# Altium footprint library PcbLib1.PcbLib: 20 footprints (part 1 of 2)
Each footprint in its own frame and in the unit in brackets; x right, y up, seen from the top. Pads: shape width x height; smd on the part's side, far side on the other; paste and mask are expansions set on the pad; w line width, h text height; cw(c..) or ccw(c..) is an arc to the next point about the centre after c.
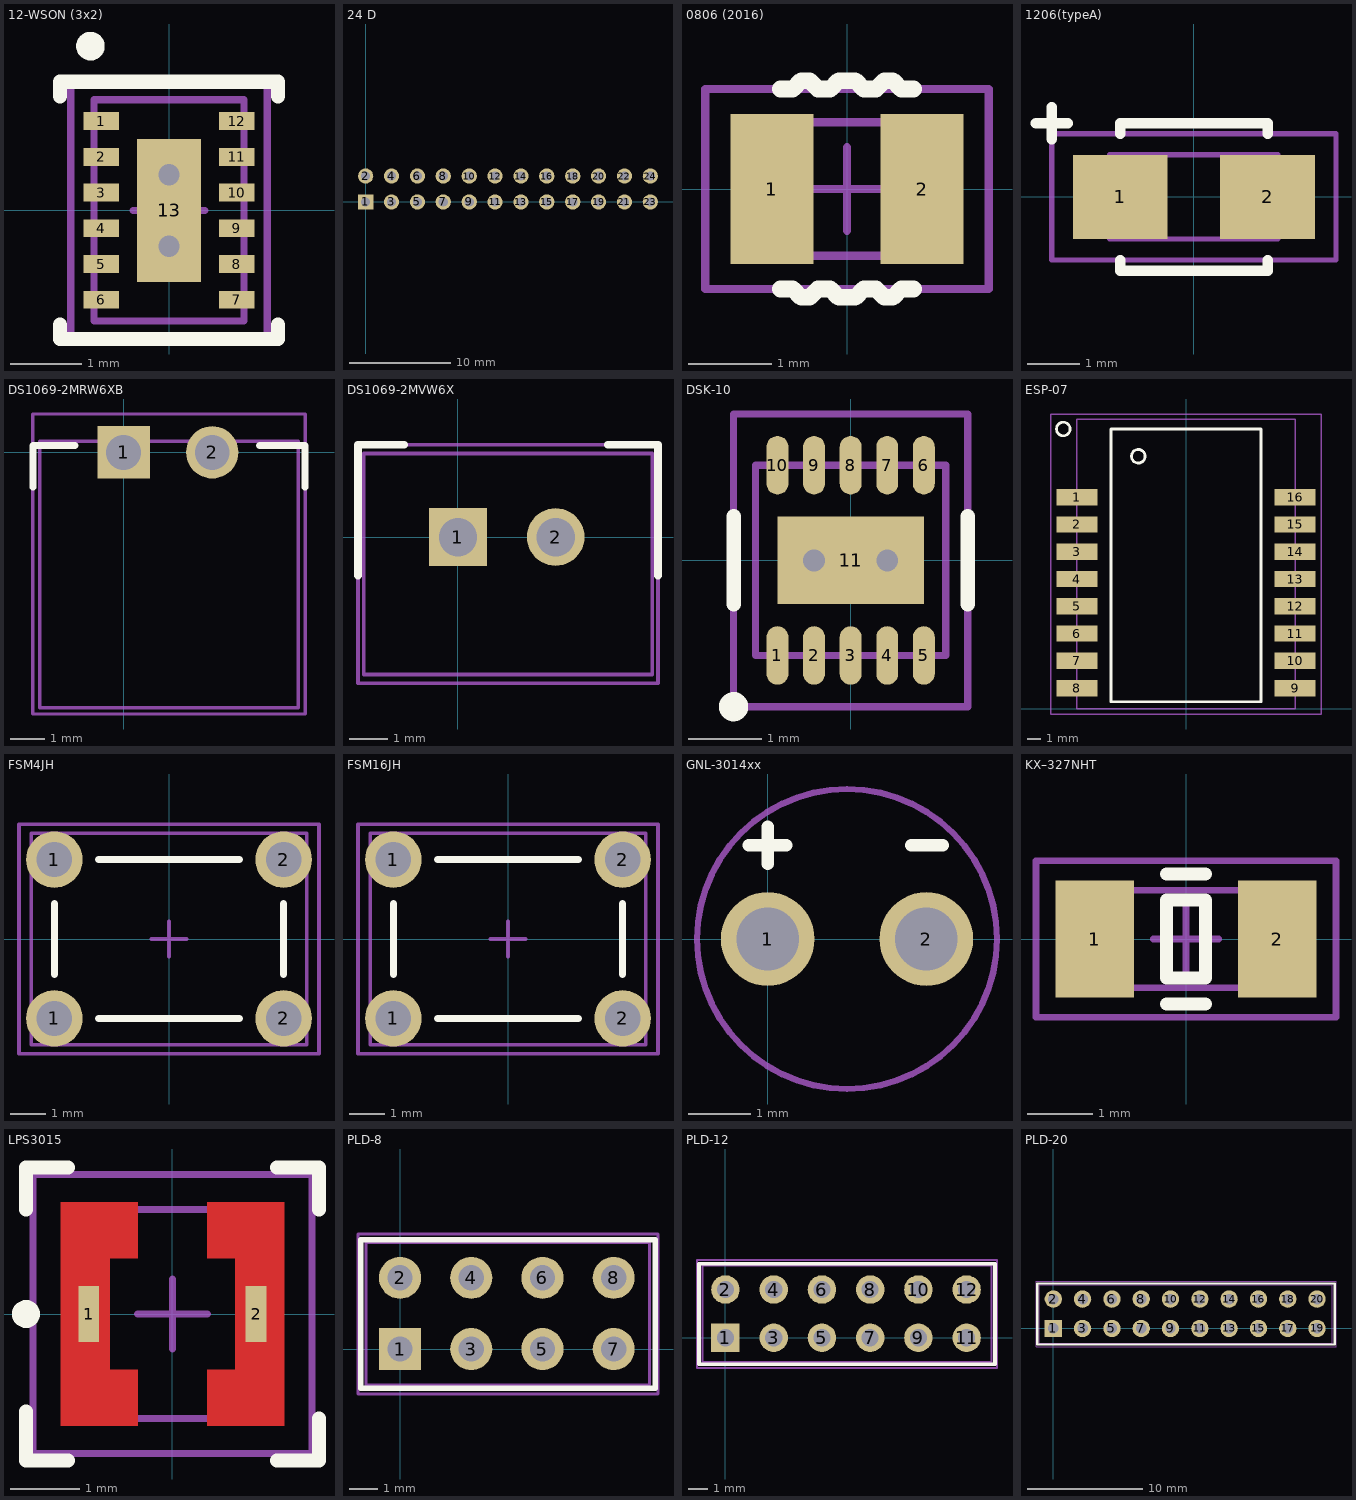
[diagram p0: the footprints below, top view; thin cyan lines are the x and y axes]

## 12-WSON (3x2) [mm]
pads (13):
  rect 0.5x0.25 smd mask+0.05: 1(-0.95,1.25) 2(-0.95,0.75) 3(-0.95,0.25) 4(-0.95,-0.25) 5(-0.95,-0.75) 6(-0.95,-1.25) 7(0.95,-1.25) 8(0.95,-0.75) 9(0.95,-0.25) 10(0.95,0.25) 11(0.95,0.75) 12(0.95,1.25)
  rect 0.9x2 smd mask+0.05: 13(0,0)
via 0,0.5 diameter 0.8 hole 0.3
via 0,-0.5 diameter 0.8 hole 0.3
Top Overlay:
  circle w0.2: c-1.1,2.3 r0.1
  lines w0.2: -1.525,-1.6 -1.525,-1.8 1.525,-1.8 1.525,-1.6 ; -1.525,1.6 -1.525,1.8 1.525,1.8 1.525,1.6
Mechanical 13:
  lines w0.1: -1.05,-1.55 -1.05,1.55 1.05,1.55 1.05,-1.55 -1.05,-1.55
Mechanical 15:
  lines w0.1: -0.5,0 0.5,0 ; 0,-0.5 0,0.5 ; -1.375,-1.75 1.375,-1.75 1.375,1.75 -1.375,1.75 -1.375,-1.75
3D body "User Library-WSON12.STEP": height 0.8, standoff 0, extent -1.05,-1.55 1.05,1.55

## 24 D [mm]
pads (24):
  rect 1.5x1.5 hole 0.9: 1(0,0)
  round 1.5 hole 0.9: 2(0,2.54) 3(2.54,0) 4(2.54,2.54) 5(5.08,0) 6(5.08,2.54) 7(7.62,0) 8(7.62,2.54) 9(10.16,0) 10(10.16,2.54) 11(12.7,0) 12(12.7,2.54) 13(15.24,0) 14(15.24,2.54) 15(17.78,0) 16(17.78,2.54) 17(20.32,0) 18(20.32,2.54) 19(22.86,0) 20(22.86,2.54) 21(25.4,0) 22(25.4,2.54) 23(27.94,0) 24(27.94,2.54)

## 0806 (2016) [mm]
height 1
pads (2):
  rect 1x1.8 smd: 1(-0.9,0) 2(0.9,0)
Top Overlay:
  lines w0.2: -0.8,-1.2 -0.65,-1.2 -0.55,-1.3 -0.45,-1.3 -0.35,-1.2 -0.2,-1.2 -0.1,-1.3 0.1,-1.3 0.2,-1.2 0.35,-1.2 0.45,-1.3 0.55,-1.3 0.65,-1.2 0.8,-1.2 ; -0.8,1.2 -0.65,1.2 -0.55,1.3 -0.45,1.3 -0.35,1.2 -0.2,1.2 -0.1,1.3 0.1,1.3 0.2,1.2 0.35,1.2 0.45,1.3 0.55,1.3 0.65,1.2 0.8,1.2
Mechanical 13:
  lines w0.1: -1,-0.8 1,-0.8 1,0.8 -1,0.8 -1,-0.8
Mechanical 15:
  lines w0.1: -0.5,0 0.5,0 ; 0,-0.5 0,0.5 ; -1.7,-1.2 -1.7,1.2 1.7,1.2 1.7,-1.2 -1.7,-1.2
3D body: height 1, standoff 0, extent -0.999,-0.799 0.999,0.799

## 1206(typeA) [mm]
height 1.6
pads (2):
  rect 1.8x1.6 smd: 1(-1.4,0) 2(1.4,0)
Top Overlay:
  lines w0.2: -3,1.4 -2.4,1.4 ; -2.7,1.1 -2.7,1.7 ; -1.4,-1.2 -1.4,-1.4 1.4,-1.4 1.4,-1.2 ; -1.4,1.2 -1.4,1.4 1.4,1.4 1.4,1.2
Mechanical 13:
  lines w0.1: -1.6,-0.8 -1.6,0.8 1.6,0.8 1.6,-0.8 -1.6,-0.8
Mechanical 15:
  lines w0.1: -2.7,-1.2 2.7,-1.2 2.7,1.2 -2.7,1.2 -2.7,-1.2
3D body: height 1.6, standoff 0, extent -1.599,-0.799 1.599,0.799

## DS1069-2MRW6XB [mm]
height 5.8
pads (2):
  rect 1.5x1.5 hole 1: 1(0,0)
  round 1.5 hole 1: 2(2.54,0)
Top Overlay:
  lines w0.2: -2.6,-1 -2.6,0.2 -1.4,0.2 ; 3.9,0.2 5.2,0.2 5.2,-1
Mechanical 13:
  lines w0.1: -2.4,-7.32 5,-7.32 ; -2.4,-7.32 -2.4,0.32 5,0.32 5,-7.32 ; -2.4,-7.32 -2.4,-7.32 ; 5,-7.32 5,-7.32
Mechanical 15:
  lines w0.1: -2.6,-7.5 -2.6,1.1 5.2,1.1 5.2,-7.5 -2.6,-7.5
3D body "User Library-DS1069-2 MR (CWF-2 R).STEP": height 5.75, standoff -3.4, extent -2.4,-7.32 5,0.32

## DS1069-2MVW6X [mm]
pads (2):
  rect 1.5x1.5 hole 1: 1(0,0)
  round 1.5 hole 1: 2(2.54,0)
Top Overlay:
  lines w0.2: -2.6,-1 -2.6,2.4 -1.4,2.4 ; 3.9,2.4 5.2,2.4 5.2,-1
Mechanical 13:
  lines w0.1: -2.45,-3.575 5.05,-3.575 5.05,2.175 -2.45,2.175 -2.45,-3.575
Mechanical 15:
  lines w0.1: -2.6,-3.8 -2.6,2.4 5.2,2.4 5.2,-3.8 -2.6,-3.8
3D body "User Library-CWF-2.STEP": height 7, standoff -3.5, extent -2.45,-3.575 5.05,2.175

## DSK-10 [mm]
height 0.8
pads (11):
  oval 0.3x0.8 smd: 1(-1,-1.3) 2(-0.5,-1.3) 3(0,-1.3) 4(0.5,-1.3) 5(1,-1.3) 6(1,1.3) 7(0.5,1.3) 8(0,1.3) 9(-0.5,1.3) 10(-1,1.3)
  rect 2x1.2 smd mask+0.05: 11(0,0)
via -0.5,0 diameter 0.8 hole 0.3
via 0.5,0 diameter 0.8 hole 0.3
Top Overlay:
  circle w0.2: c-1.6,-2 r0.1
  lines w0.2: -1.6,-0.6 -1.6,0.6 ; 1.6,-0.6 1.6,0.6
Mechanical 13:
  lines w0.1: -1.3,-1.3 1.3,-1.3 1.3,1.3 -1.3,1.3 -1.3,-1.3
Mechanical 15:
  lines w0.1: -0.5,0 0.5,0 ; 0,-0.5 0,0.5 ; -1.6,-2 1.6,-2 1.6,2 -1.6,2 -1.6,-2
3D body: height 0.8, standoff 0, extent -1.299,-1.299 1.299,1.299

## ESP-07 [mm] "Wifi Module"
height 5
pads (16):
  rect 3x1.2 smd: 1(-8,15.5) 2(-8,13.5) 3(-8,11.5) 4(-8,9.5) 5(-8,7.5) 6(-8,5.5) 7(-8,3.5) 8(-8,1.5) 9(8,1.5) 10(8,3.5) 11(8,5.5) 12(8,7.5) 13(8,9.5) 14(8,11.5) 15(8,13.5) 16(8,15.5)
Top Overlay:
  circle w0.2: c-9,20.5 r0.5
  circle w0.2: c-3.5,18.5 r0.5
  lines w0.2: -5.5,0.5 5.5,0.5 5.5,20.5 -5.5,20.5 -5.5,0.5
Mechanical 13:
  lines w0.1: -8,0 -8,21.2 8,21.2 8,0 -8,0
Mechanical 15:
  lines w0.1: -9.9,-0.4 9.9,-0.4 9.9,21.6 -9.9,21.6 -9.9,-0.4
3D body: height 3, standoff 0, extent -7.999,0.001 7.999,21.199

## FSM4JH [mm]
pads (4):
  round 1.6 hole 1: 1(-3.25,-2.25) 1(-3.25,2.25) 2(3.25,-2.25) 2(3.25,2.25)
Top Overlay:
  lines w0.2: -3.25,-1 -3.25,1 ; -2,-2.25 2,-2.25 ; -2,2.25 2,2.25 ; 3.25,-1 3.25,1
Mechanical 13:
  lines w0.1: -3.898,-2.995 3.9,-2.995 3.9,2.995 -3.898,2.995 -3.898,-2.995
Mechanical 15:
  lines w0.1: -0.5,0 0.5,0 ; 0,-0.5 0,0.5 ; -4.25,-3.25 -4.25,3.25 4.25,3.25 4.25,-3.25 -4.25,-3.25
3D body "User Library-FSM4JH(1825910-6).STEP": height 5, standoff -3.51, extent -3.898,-2.995 3.9,2.995

## FSM16JH [mm]
pads (4):
  round 1.6 hole 1: 1(-3.25,-2.25) 1(-3.25,2.25) 2(3.25,-2.25) 2(3.25,2.25)
Top Overlay:
  lines w0.2: -3.25,-1 -3.25,1 ; -2,-2.25 2,-2.25 ; -2,2.25 2,2.25 ; 3.25,-1 3.25,1
Mechanical 13:
  lines w0.1: -3.898,-2.995 -3.898,2.995 3.9,2.995 3.9,-2.995 -3.898,-2.995
Mechanical 15:
  lines w0.1: -0.5,0 0.5,0 ; 0,-0.5 0,0.5 ; -4.25,-3.25 4.25,-3.25 4.25,3.25 -4.25,3.25 -4.25,-3.25
3D body "User Library-FSM16JH(3-1825910-1).STEP": height 17, standoff -3.51, extent -3.898,-2.995 3.9,2.995

## GNL-3014xx [mm]
pads (2):
  round 1.5 hole 1: 1(0,0) 2(2.54,0)
Top Overlay:
  lines w0.2: -0.3,1.5 0.3,1.5 ; 0,1.2 0,1.8 ; 2.3,1.5 2.8,1.5
Mechanical 15:
  circle w0.1: c1.27,0 r2.4

## KX–327NHT [mm] "Quartz"
pads (2):
  rect 1.2x1.8 smd: 1(-1.4,0) 2(1.4,0)
Top Overlay:
  lines w0.2: -0.3,-1 0.3,-1 ; -0.3,1 0.3,1 ; -0.3,-0.6 -0.3,0.6 0.3,0.6 0.3,-0.6 -0.3,-0.6
Mechanical 1:
  lines w0.1: -1.6,-0.75 1.6,-0.75 1.6,0.75 -1.6,0.75 -1.6,-0.75
Mechanical 15:
  lines w0.1: -0.5,0 0.5,0 ; 0,-0.5 0,0.5 ; -2.3,-1.2 2.3,-1.2 2.3,1.2 -2.3,1.2 -2.3,-1.2
3D body "User Library-KX-327NHT.STEP": height 0.71, standoff 0, extent -1.6,-0.75 1.6,0.75

## LPS3015 [mm]
height 1.4
pads (2):
  rect 0.3x0.8 smd paste+0 mask+0: 1(-1.2,0) 2(1.2,0)
Top Layer:
  region: 1.6,-1.6 0.5,-1.6 0.5,-0.8 0.9,-0.8 0.9,0.8 0.5,0.8 0.5,1.6 1.6,1.6
  region: -1.6,1.6 -0.5,1.6 -0.5,0.8 -0.9,0.8 -0.9,-0.8 -0.5,-0.8 -0.5,-1.6 -1.6,-1.6
Top Overlay:
  circle w0.2: c-2.1,0 r0.1
  lines w0.2: -2.1,-1.4 -2.1,-2.1 -1.5,-2.1 ; -2.1,1.5 -2.1,2.1 -1.5,2.1 ; 1.5,-2.1 2.1,-2.1 2.1,-1.5 ; 1.5,2.1 2.1,2.1 2.1,1.5
Mechanical 13:
  lines w0.1: -1.5,-1.5 -1.5,1.5 1.5,1.5 1.5,-1.5 -1.5,-1.5
Mechanical 15:
  lines w0.1: -0.5,0 0.5,0 ; 0,-0.5 0,0.5 ; -2,-2 2,-2 2,2 -2,2 -2,-2
3D body: height 1.4, standoff 0, extent -1.499,-1.499 1.499,1.499

## PLD-8 [mm]
pads (8):
  rect 1.5x1.5 hole 0.9: 1(0,0)
  round 1.5 hole 0.9: 2(0,2.54) 3(2.54,0) 4(2.54,2.54) 5(5.08,0) 6(5.08,2.54) 7(7.62,0) 8(7.62,2.54)
Top Overlay:
  lines w0.2: -1.4,-1.4 9.1,-1.4 9.1,3.9 -1.4,3.9 -1.4,-1.4
Mechanical 13:
  lines w0.1: -1.22,-1.28 8.9,-1.28 8.9,3.8 -1.22,3.8 -1.22,-1.28
Mechanical 15:
  lines w0.1: -1.5,-1.6 -1.5,4.1 9.2,4.1 9.2,-1.6 -1.5,-1.6
3D body "PLS-2.STEP": height 8.8, standoff -3, extent 6.4,-1.28 8.94,3.8
3D body "PLS-2.STEP": height 8.8, standoff -3, extent 3.86,-1.28 6.4,3.8
3D body "PLS-2.STEP": height 8.8, standoff -3, extent 1.32,-1.28 3.86,3.8
3D body "PLS-2.STEP": height 8.8, standoff -3, extent -1.22,-1.28 1.32,3.8

## PLD-12 [mm]
pads (12):
  rect 1.5x1.5 hole 0.9: 1(0,0)
  round 1.5 hole 0.9: 2(0,2.54) 3(2.54,0) 4(2.54,2.54) 5(5.08,0) 6(5.08,2.54) 7(7.62,0) 8(7.62,2.54) 9(10.16,0) 10(10.16,2.54) 11(12.7,0) 12(12.7,2.54)
Top Overlay:
  lines w0.2: -1.4,-1.4 14.2,-1.4 14.2,3.9 -1.4,3.9 -1.4,-1.4
Mechanical 13:
  lines w0.1: -1.22,-1.28 14,-1.28 14,3.8 -1.22,3.8 -1.22,-1.28
Mechanical 15:
  lines w0.1: -1.5,-1.6 -1.5,4.1 14.3,4.1 14.3,-1.6 -1.5,-1.6
3D body "PLS-2.STEP": height 8.8, standoff -3, extent 11.48,-1.28 14.02,3.8
3D body "PLS-2.STEP": height 8.8, standoff -3, extent 8.94,-1.28 11.48,3.8
3D body "PLS-2.STEP": height 8.8, standoff -3, extent 6.4,-1.28 8.94,3.8
3D body "PLS-2.STEP": height 8.8, standoff -3, extent 3.86,-1.28 6.4,3.8
3D body "PLS-2.STEP": height 8.8, standoff -3, extent 1.32,-1.28 3.86,3.8
3D body "PLS-2.STEP": height 8.8, standoff -3, extent -1.22,-1.28 1.32,3.8

## PLD-20 [mm]
pads (20):
  rect 1.5x1.5 hole 0.9: 1(0,0)
  round 1.5 hole 0.9: 2(0,2.54) 3(2.54,0) 4(2.54,2.54) 5(5.08,0) 6(5.08,2.54) 7(7.62,0) 8(7.62,2.54) 9(10.16,0) 10(10.16,2.54) 11(12.7,0) 12(12.7,2.54) 13(15.24,0) 14(15.24,2.54) 15(17.78,0) 16(17.78,2.54) 17(20.32,0) 18(20.32,2.54) 19(22.86,0) 20(22.86,2.54)
Top Overlay:
  lines w0.2: -1.4,-1.4 -1.4,3.9 24.4,3.9 24.4,-1.4 -1.4,-1.4
Mechanical 13:
  lines w0.1: -1.22,-1.28 -1.22,3.8 24.18,3.8 24.18,-1.28 -1.22,-1.28
Mechanical 15:
  lines w0.1: -1.5,-1.6 24.5,-1.6 24.5,4.1 -1.5,4.1 -1.5,-1.6
3D body "PLS-2.STEP": height 8.8, standoff -3, extent -1.22,-1.28 1.32,3.8
3D body "PLS-2.STEP": height 8.8, standoff -3, extent 1.32,-1.28 3.86,3.8
3D body "PLS-2.STEP": height 8.8, standoff -3, extent 3.86,-1.28 6.4,3.8
3D body "PLS-2.STEP": height 8.8, standoff -3, extent 6.4,-1.28 8.94,3.8
3D body "PLS-2.STEP": height 8.8, standoff -3, extent 8.94,-1.28 11.48,3.8
3D body "PLS-2.STEP": height 8.8, standoff -3, extent 11.48,-1.28 14.02,3.8
3D body "PLS-2.STEP": height 8.8, standoff -3, extent 14.02,-1.28 16.56,3.8
3D body "PLS-2.STEP": height 8.8, standoff -3, extent 16.56,-1.28 19.1,3.8
3D body "PLS-2.STEP": height 8.8, standoff -3, extent 19.1,-1.28 21.64,3.8
3D body "PLS-2.STEP": height 8.8, standoff -3, extent 21.64,-1.28 24.18,3.8